# Altium schematic symbol library MP9486AGN-Z.SchLib: 1 symbol
Pins are listed as number, name and electrical type; pins without a type are passive.

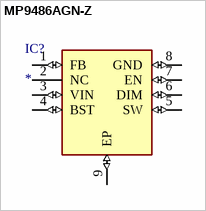
[diagram p0: symbol MP9486AGN-Z]

## MP9486AGN-Z
designator IC?
Buck Switching Regulator IC Positive Fixed 5V 1 Output 1A 8-SOIC (0.154, 3.90mm Width) Exposed Pad; MF: Monolithic Power; MP: MP9486AGN-Z; SnapEDA_Link: https://www.snapeda.com/parts/MP9486AGN-Z/Monolithic+Power+Systems+Inc./view-part/?ref=snap; Package: SOIC-8 Monolithic Power; Value: *; Check_prices: https://www.snapeda.com/parts/MP9486AGN-Z/Monolithic+Power+Systems+Inc./view-part/?ref=eda
footprint SOIC127P600X170-9N
pins: 1 FB (io), 2 NC, 3 VIN (io), 4 BST (io), 5 SW (io), 6 DIM (io), 7 EN (io), 8 GND (io), 9 EP (io)